# EAGLE library part DS1307 (library LEMS)
Real Time Clock by Maxim
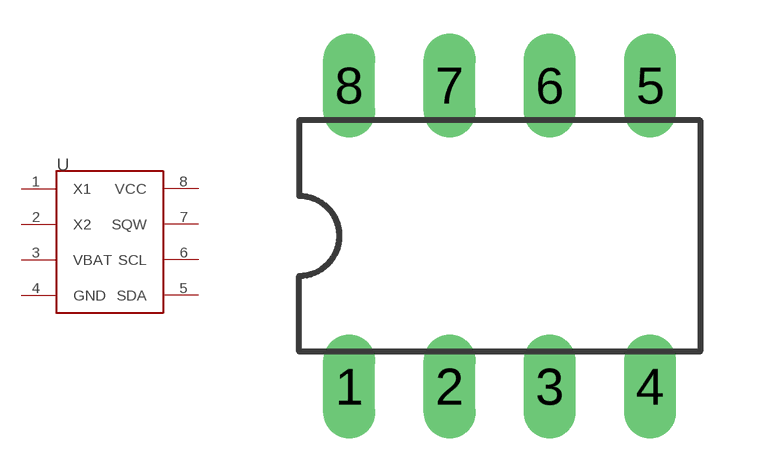
[diagram p3: symbol with the pads of DIL8; footprint DIL8]

Designator prefix -

## DS1307P  [DIL8]
1  X1  in
2  X2  in
3  VBAT  pwr
4  GND  pwr
5  SDA
6  SCL  in
7  SQW  out
8  VCC  pwr

## Footprint DIL8 (pad centres in mm)
8-Pin Dual Inline Package
drill 0.813 long: 1 -3.81,-3.81; 2 -1.27,-3.81; 3 1.27,-3.81; 4 3.81,-3.81; 5 3.81,3.81; 6 1.27,3.81; 7 -1.27,3.81; 8 -3.81,3.81